# EAGLE library part CONN,2X8HDR (library QuantumOptics)
Header, 2x8
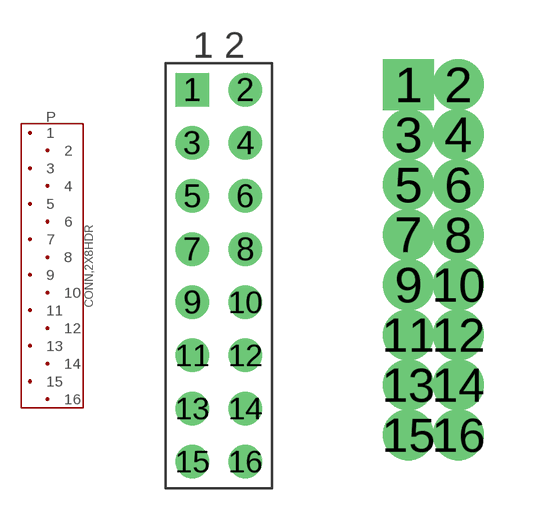
[diagram p206: symbol with the pads of CONN,2X8HDR,0.1IN; footprints CONN,2X8HDR,0.1IN, CONN,2X8(50MIL)]

Designator prefix P

## CONN,2X8HDR-0.1IN  [CONN,2X8HDR,0.1IN]
1  1
2  2
3  3
4  4
5  5
6  6
7  7
8  8
9  9
10  10
11  11
12  12
13  13
14  14
15  15
16  16

## CONN,2X8HDR-0.05IN  [CONN,2X8(50MIL)]
Pads as for CONN,2X8HDR,0.1IN

## Footprint CONN,2X8HDR,0.1IN (pad centres in mm)
Header, 2x8 on 0.1" spacing
drill 1.067 square: 1 -1.27,8.89
drill 1.067: 2 1.27,8.89; 3 -1.27,6.35; 4 1.27,6.35; 5 -1.27,3.81; 6 1.27,3.81; 7 -1.27,1.27; 8 1.27,1.27; 9 -1.27,-1.27; 10 1.27,-1.27; 11 -1.27,-3.81; 12 1.27,-3.81; 13 -1.27,-6.35; 14 1.27,-6.35; 15 -1.27,-8.89; 16 1.27,-8.89

## Footprint CONN,2X8(50MIL) (pad centres in mm)
Connector, 2 rows of 8 pins, straight or right angle, such as Sullins GRPB082MWCN-RC (0.050"). Need 6m" trace and space.
drill 0.787 pad 1.118 square: 1 0,0
drill 0.787 pad 1.118: 2 1.27,0; 3 0,-1.27; 4 1.27,-1.27; 5 0,-2.54; 6 1.27,-2.54; 7 0,-3.81; 8 1.27,-3.81; 9 0,-5.08; 10 1.27,-5.08; 11 0,-6.35; 12 1.27,-6.35; 13 0,-7.62; 14 1.27,-7.62; 15 0,-8.89; 16 1.27,-8.89